# Altium footprint library SRN6045TA330M.PcbLib: 1 footprints
Each footprint in its own frame and in the unit in brackets; x right, y up, seen from the top. Pads: shape width x height; smd on the part's side, far side on the other; paste and mask are expansions set on the pad; w line width, h text height; cw(c..) or ccw(c..) is an arc to the next point about the centre after c.
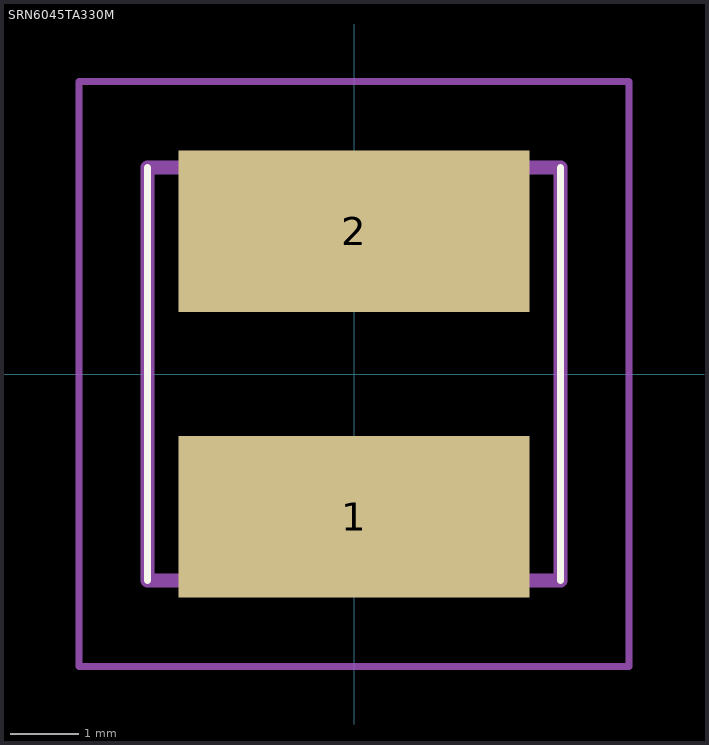
[diagram p0: the footprint, top view; thin cyan lines are the x and y axes]

## SRN6045TA330M [mm]
pads (2):
  rect 5.1x2.35 smd: 1(0,-2.075) 2(0,2.075)
Top Overlay:
  lines w0.1: -3,-3 -3,3 ; 3,-3 3,3
Mechanical 15:
  lines w0.2: -3,-3 3,-3 3,3 -3,3 -3,-3
Mechanical 20:
  lines w0.1: -4,-4.25 4,-4.25 4,4.25 -4,4.25 -4,-4.25
3D body "SRN6045TA-3R3Y.stp": height 3.94, standoff -0.02, extent -2.997,-2.997 2.997,2.997